# EAGLE library part NE555P (library my_devices)
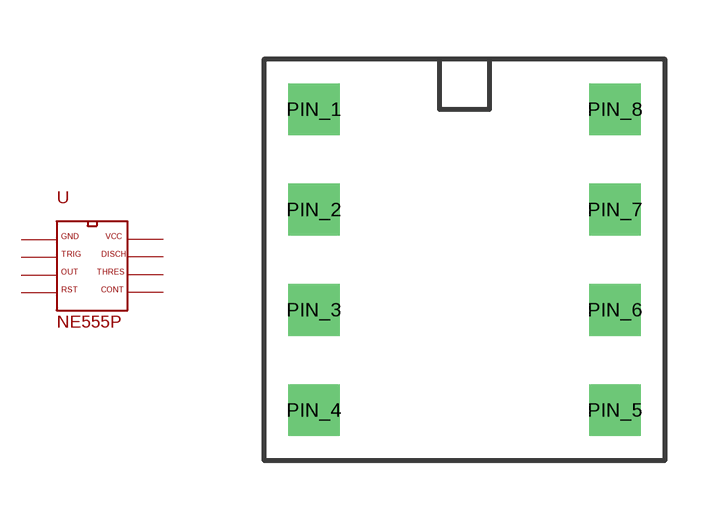
[diagram p6: symbol with the pads of DIP8; footprint DIP8]

Designator prefix U

## NE555P  [DIP8]
PIN_1  GND  pwr
PIN_2  TRIG
PIN_3  OUT  out
PIN_4  RESET
PIN_5  CONT
PIN_6  THRES
PIN_7  DISCH
PIN_8  VCC  pwr

## Footprint DIP8 (pad centres in mm)
drill 0.8 square: PIN_1 -3.81,3.81; PIN_2 -3.81,1.27; PIN_3 -3.81,-1.27; PIN_4 -3.81,-3.81; PIN_5 3.81,-3.81; PIN_6 3.81,-1.27; PIN_7 3.81,1.27; PIN_8 3.81,3.81